# Altium footprint library LCC_Sq_N.PcbLib: 2 footprints
Each footprint in its own frame and in the unit in brackets; x right, y up, seen from the top. Pads: shape width x height; smd on the part's side, far side on the other; paste and mask are expansions set on the pad; w line width, h text height; cw(c..) or ccw(c..) is an arc to the next point about the centre after c.
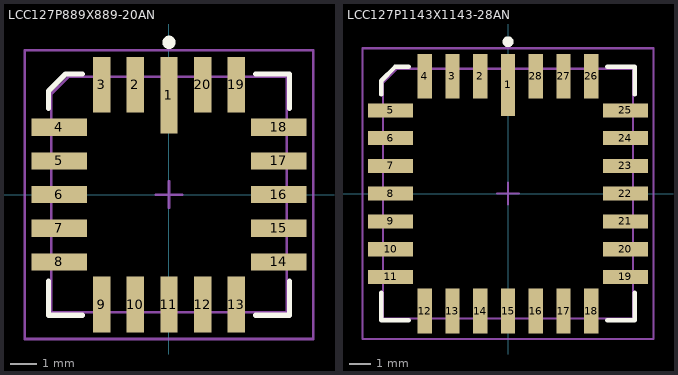
[diagram p0: the footprints below, top view; thin cyan lines are the x and y axes]

## LCC127P889X889-20AN [mm] "LCC, 20-Pins, Body 8.9x8.9mm Pitch 1.27mm, IPC Medium Density"
height 1.91
pads (20):
  rect 0.65x2.9 smd: 1(0,3.75)
  rect 0.65x2.1 smd: 2(-1.27,4.15) 3(-2.54,4.15) 9(-2.54,-4.15) 10(-1.27,-4.15) 11(0,-4.15) 12(1.27,-4.15) 13(2.54,-4.15) 19(2.54,4.15) 20(1.27,4.15)
  rect 2.1x0.65 smd: 4(-4.15,2.54) 5(-4.15,1.27) 6(-4.15,0) 7(-4.15,-1.27) 8(-4.15,-2.54) 14(4.15,-2.54) 15(4.15,-1.27) 16(4.15,0) 17(4.15,1.27) 18(4.15,2.54)
Top Overlay:
  circle w0.25: c0,5.75 r0.125
  lines w0.2: -4.55,-3.265 -4.55,-4.55 -3.265,-4.55 ; -4.55,3.265 -4.55,3.908 -3.908,4.55 -3.265,4.55 ; 3.265,-4.55 4.55,-4.55 4.55,-3.265 ; 3.265,4.55 4.55,4.55 4.55,3.265
Mechanical 13:
  lines w0.1: -4.445,-4.445 -4.445,3.802 -3.802,4.445 4.445,4.445 4.445,-4.445 -4.445,-4.445
Mechanical 15:
  lines w0.1: -0.5,0 0.5,0 ; 0,-0.5 0,0.5 ; -5.45,-5.45 -5.45,5.45 5.45,5.45 5.45,-5.45 -5.45,-5.45
3D body: height 1.91, standoff 0, extent -4.445,-4.445 4.445,4.445

## LCC127P1143X1143-28AN [mm] "LCC, 28-Pins, Body 11.4x11.4mm, Pitch 1.27mm, IPC Medium Density"
height 1.87
pads (28):
  rect 0.65x2.85 smd: 1(0,4.975)
  rect 0.65x2.05 smd: 2(-1.27,5.375) 3(-2.54,5.375) 4(-3.81,5.375) 12(-3.81,-5.375) 13(-2.54,-5.375) 14(-1.27,-5.375) 15(0,-5.375) 16(1.27,-5.375) 17(2.54,-5.375) 18(3.81,-5.375) 26(3.81,5.375) 27(2.54,5.375) 28(1.27,5.375)
  rect 2.05x0.65 smd: 5(-5.375,3.81) 6(-5.375,2.54) 7(-5.375,1.27) 8(-5.375,0) 9(-5.375,-1.27) 10(-5.375,-2.54) 11(-5.375,-3.81) 19(5.375,-3.81) 20(5.375,-2.54) 21(5.375,-1.27) 22(5.375,0) 23(5.375,1.27) 24(5.375,2.54) 25(5.375,3.81)
Top Overlay:
  circle w0.25: c0,6.95 r0.125
  lines w0.2: -5.8,-4.535 -5.8,-5.8 -4.535,-5.8 ; -5.8,4.535 -5.8,5.168 -5.168,5.8 -4.535,5.8 ; 4.535,-5.8 5.8,-5.8 5.8,-4.535 ; 4.535,5.8 5.8,5.8 5.8,4.535
Mechanical 13:
  lines w0.1: -5.715,-5.715 5.715,-5.715 5.715,5.715 -5.083,5.715 -5.715,5.083 -5.715,-5.715
Mechanical 15:
  lines w0.1: -0.5,0 0.5,0 ; 0,-0.5 0,0.5 ; -6.65,-6.65 6.65,-6.65 6.65,6.65 -6.65,6.65 -6.65,-6.65
3D body: height 1.87, standoff 0, extent -5.715,-5.715 5.715,5.715